# Altium integrated library 2023960807_molex.IntLib: 1 symbol
Pins are listed as number, name and electrical type; pins without a type are passive.

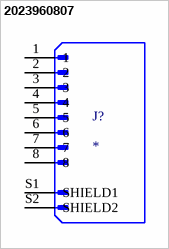
[diagram p0: symbol 2023960807]

## 2023960807
designator J?
MP: 2023960807; Price: None; Availability: Unavailable; Value: *; Package: None
footprint MOLEX_2023960807
pins: 1, 2, 3, 4, 5, 6, 7, 8, S1 SHIELD1, S2 SHIELD2